# Altium footprint library 282836-3.PcbLib: 1 footprints
Each footprint in its own frame and in the unit in brackets; x right, y up, seen from the top. Pads: shape width x height; smd on the part's side, far side on the other; paste and mask are expansions set on the pad; w line width, h text height; cw(c..) or ccw(c..) is an arc to the next point about the centre after c.
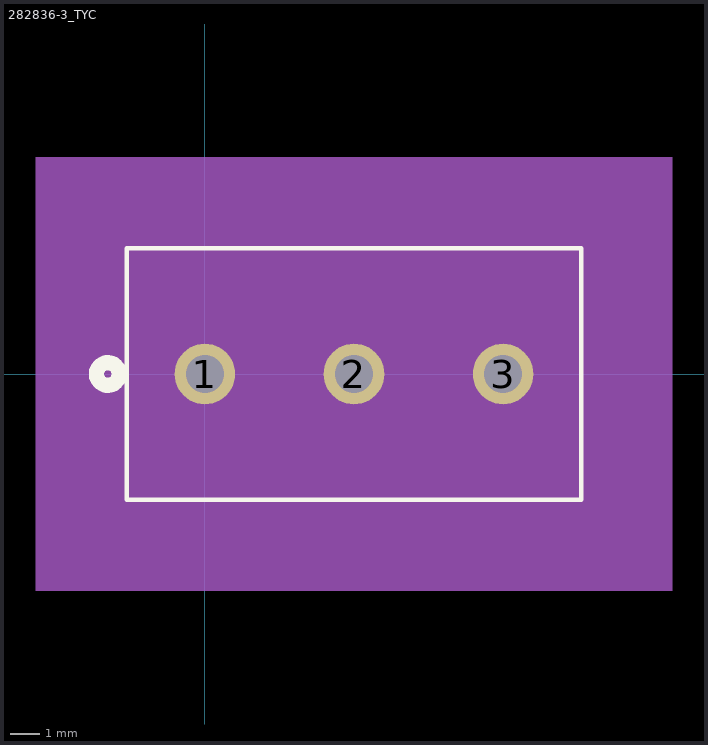
[diagram p0: the footprint, top view; thin cyan lines are the x and y axes]

## 282836-3_TYC [mil]
pads (3):
  round 80 hole 50 mask+0: 1(0,0) 2(196.85,0) 3(393.7,0)
Top Overlay:
  circle w20: c-128.15,0 r15
  lines w6: -103.15,-166 496.85,-166 496.85,166 -103.15,166 -103.15,-166
Bottom Overlay:
  circle w20: c-128.15,0 r15
Mechanical 5:
  region: -223.15,286 616.85,286 616.85,-286 -223.15,-286
Mechanical 13:
  circle w20: c0,75 r15
  lines w1: -98.15,-161 491.85,-161 491.85,161 -98.15,161 -98.15,-161
Mechanical 15:
  region: 501.85,171 -108.15,171 -108.15,-171 501.85,-171
  lines w6: -108.15,-171 -108.15,171 501.85,171 501.85,-171 -108.15,-171
3D body: height 10, standoff 0, extent 0,0 10,10